# Altium footprint library Vyrodov.PcbLib: 62 footprints (part 3 of 5)
Each footprint in its own frame and in the unit in brackets; x right, y up, seen from the top. Pads: shape width x height; smd on the part's side, far side on the other; paste and mask are expansions set on the pad; w line width, h text height; cw(c..) or ccw(c..) is an arc to the next point about the centre after c.
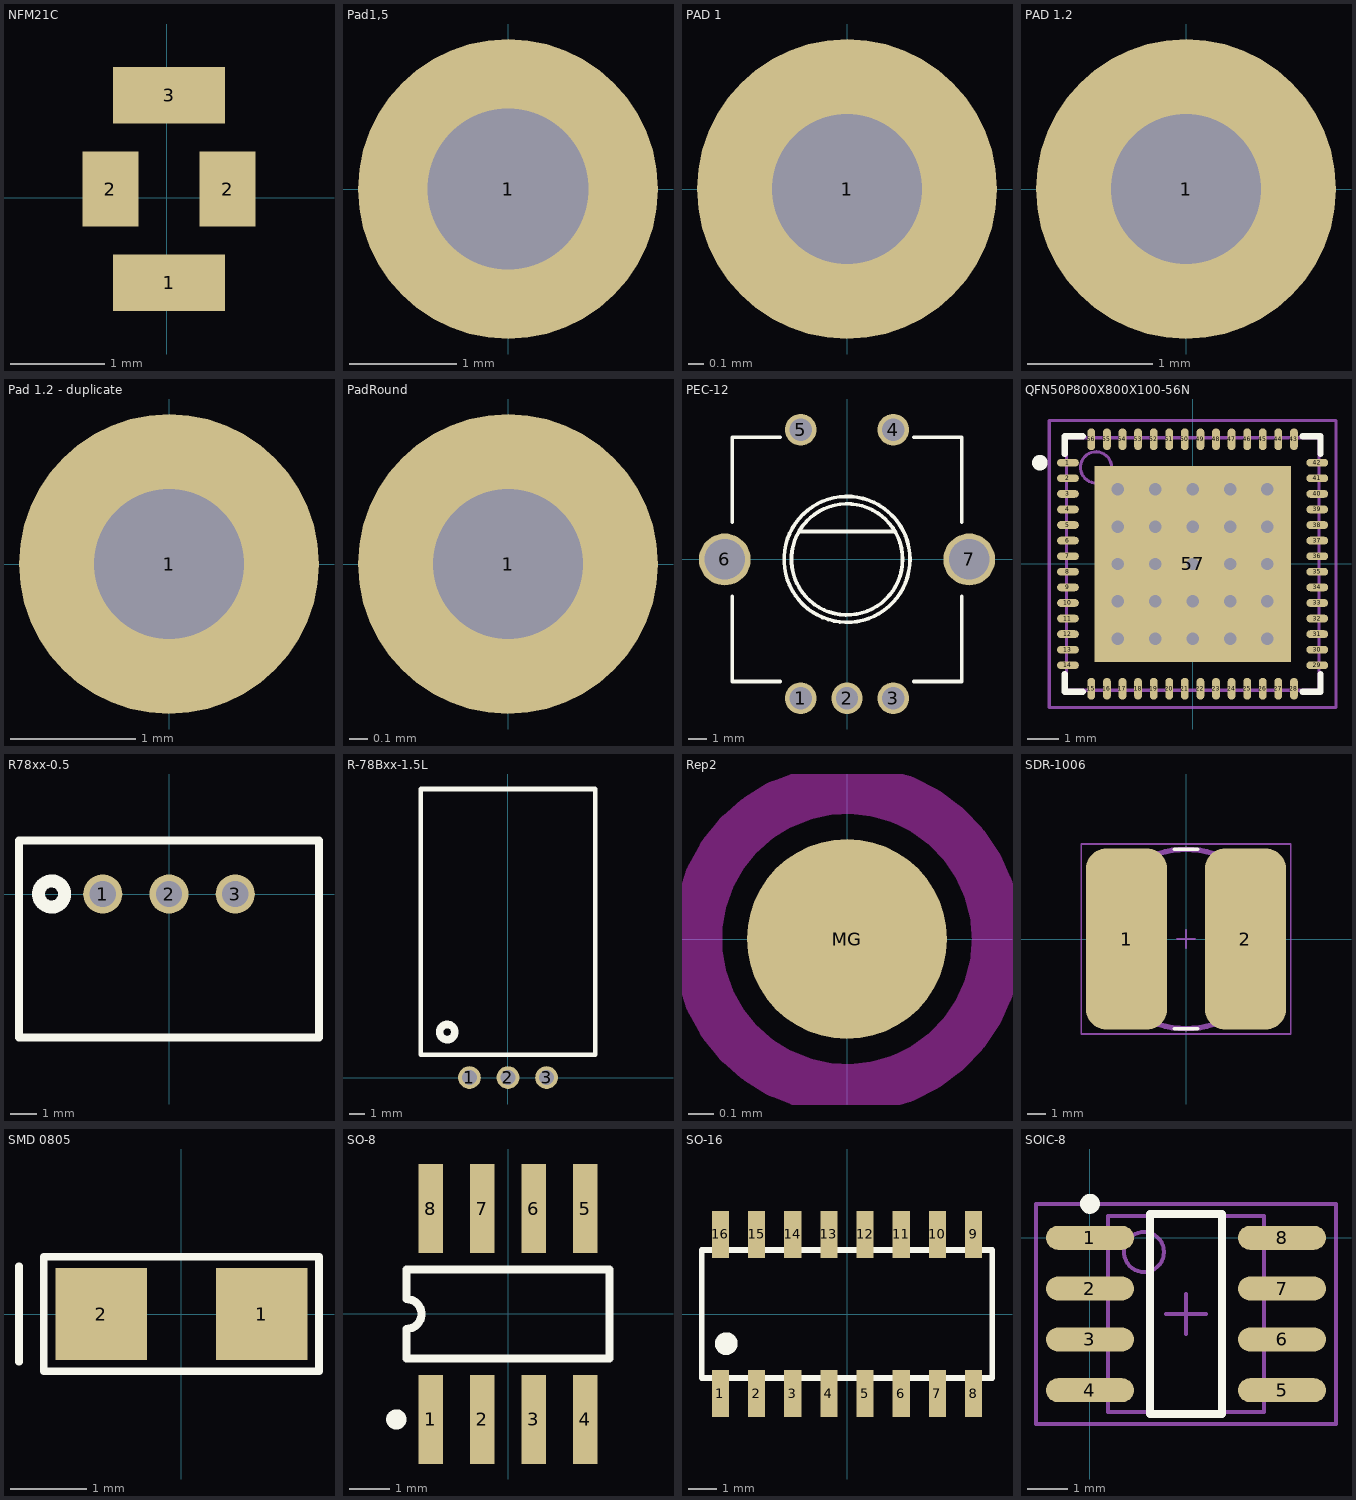
[diagram p2: the footprints below, top view; thin cyan lines are the x and y axes]

## NFM21C [mm]
height 0.85
pads (4):
  rect 1.2x0.6 smd: 1(0.023,-0.909) 3(0.023,1.091)
  rect 0.6x0.8 smd: 2(-0.602,0.091) 2(0.648,0.091)
3D body: height 0.84, standoff 0, extent -0.577,-0.884 0.623,1.066
3D body: height 0.85, standoff 0, extent 0.448,-0.209 0.648,0.391
3D body: height 0.85, standoff 0, extent -0.602,-0.209 -0.402,0.391
3D body: height 0.85, standoff 0, extent -0.602,0.791 0.648,1.091
3D body: height 0.85, standoff 0, extent -0.602,-0.909 0.648,-0.609

## Pad1,5 [mm] "Pad Round"
pads (1):
  round 2.8 hole 1.5: 1(0,0)

## PAD 1 [mm]
pads (1):
  round 2 hole 1: 1(0,0)

## PAD 1.2 [mm]
pads (1):
  round 2.4 hole 1.2: 1(0,0)

## Pad 1.2 - duplicate [mm]
pads (1):
  round 2.4 hole 1.2: 1(0,0)

## PadRound [mm] "Pad Round"
pads (1):
  round 1.6 hole 0.8: 1(0,0)

## PEC-12 [mm]
pads (7):
  round 1.7 hole 1.2: 1(-2.5,-7.5) 2(0,-7.5) 3(2.5,-7.5) 4(2.5,7) 5(-2.5,7)
  round 2.8 hole 2.2: 6(-6.6,0) 7(6.6,0)
Top Overlay:
  circle w0.2: c0,0 r3.4
  circle w0.2: c0,0 r3
  lines w0.2: -6.2,-2 -6.2,-6.6 -3.6,-6.6 ; -6.2,2 -6.2,6.6 -3.6,6.6 ; -2.5,1.5 2.5,1.5 ; 3.6,-6.6 6.2,-6.6 6.2,-2 ; 3.6,6.6 6.2,6.6 6.2,2
3D body "User Library-Encoder Alpha RE111F-41B3N-15F-20P.step": height 3.08, standoff -21.4, extent -6.771,-8.201 6.883,6.629

## QFN50P800X800X100-56N [mm] "QFN, 56-Leads, Body 8,1x8,1mm (max), Pitch 0,50mm, IPC Medium Density"
height 1
pads (57):
  oval 0.7x0.25 smd: 1(-4,3.25) 2(-4,2.75) 3(-4,2.25) 4(-4,1.75) 5(-4,1.25) 6(-4,0.75) 7(-4,0.25) 8(-4,-0.25) 9(-4,-0.75) 10(-4,-1.25) 11(-4,-1.75) 12(-4,-2.25) 13(-4,-2.75) 14(-4,-3.25) 29(4,-3.25) 30(4,-2.75) 31(4,-2.25) 32(4,-1.75) 33(4,-1.25) 34(4,-0.75) 35(4,-0.25) 36(4,0.25) 37(4,0.75) 38(4,1.25) 39(4,1.75) 40(4,2.25) 41(4,2.75) 42(4,3.25)
  oval 0.25x0.7 smd: 15(-3.25,-4) 16(-2.75,-4) 17(-2.25,-4) 18(-1.75,-4) 19(-1.25,-4) 20(-0.75,-4) 21(-0.25,-4) 22(0.25,-4) 23(0.75,-4) 24(1.25,-4) 25(1.75,-4) 26(2.25,-4) 27(2.75,-4) 28(3.25,-4) 43(3.25,4) 44(2.75,4) 45(2.25,4) 46(1.75,4) 47(1.25,4) 48(0.75,4) 49(0.25,4) 50(-0.25,4) 51(-0.75,4) 52(-1.25,4) 53(-1.75,4) 54(-2.25,4) 55(-2.75,4) 56(-3.25,4)
  rect 6.3x6.3 smd: 57(0,0)
via 2.4,-2.4 diameter 0.66 hole 0.4
via 1.2,-2.4 diameter 0.66 hole 0.4
via 0,-2.4 diameter 0.66 hole 0.4
via -1.2,-2.4 diameter 0.66 hole 0.4
via -2.4,-2.4 diameter 0.66 hole 0.4
via 2.4,-1.2 diameter 0.66 hole 0.4
via 1.2,-1.2 diameter 0.66 hole 0.4
via 0,-1.2 diameter 0.66 hole 0.4
via -1.2,-1.2 diameter 0.66 hole 0.4
via -2.4,-1.2 diameter 0.66 hole 0.4
via 2.4,0 diameter 0.66 hole 0.4
via 1.2,0 diameter 0.66 hole 0.4
via 0,0 diameter 0.66 hole 0.4
via -1.2,0 diameter 0.66 hole 0.4
via -2.4,0 diameter 0.66 hole 0.4
via 2.4,1.2 diameter 0.66 hole 0.4
via 1.2,1.2 diameter 0.66 hole 0.4
via 0,1.2 diameter 0.66 hole 0.4
via -1.2,1.2 diameter 0.66 hole 0.4
via -2.4,1.2 diameter 0.66 hole 0.4
via 2.4,2.4 diameter 0.66 hole 0.4
via 1.2,2.4 diameter 0.66 hole 0.4
via 0,2.4 diameter 0.66 hole 0.4
via -1.2,2.4 diameter 0.66 hole 0.4
via -2.4,2.4 diameter 0.66 hole 0.4
Top Overlay:
  circle w0.25: c-4.9,3.25 r0.125
  lines w0.2: -4.1,-3.525 -4.1,-4.1 -3.525,-4.1 ; -4.1,3.525 -4.1,4.1 -3.525,4.1 ; 3.525,-4.1 4.1,-4.1 4.1,-3.525 ; 3.525,4.1 4.1,4.1 4.1,3.525
Mechanical 13:
  circle w0.1: c-3.1,3.1 r0.5
  lines w0.1: -4.05,-4.05 4.05,-4.05 4.05,4.05 -4.05,4.05 -4.05,-4.05
Mechanical 15:
  lines w0.1: -0.5,0 0.5,0 ; 0,-0.5 0,0.5 ; -4.6,-4.6 4.6,-4.6 4.6,4.6 -4.6,4.6 -4.6,-4.6
3D body: height 1, standoff 0, extent -3.599,2.601 -2.601,3.599
3D body: height 1, standoff 0.02, extent -4.049,-4.049 4.049,4.049

## R78xx-0.5 [mm]
height 10.2
pads (3):
  round 1.5 hole 1: 1(-2.54,0) 2(0,0) 3(2.54,0)
Top Overlay:
  circle w0.5: c-4.5,0 r0.5
  lines w0.3: -5.75,-5.5 -5.75,2.05 5.75,2.05 5.75,-5.5 -5.75,-5.5
3D body: height 10.2, standoff 0, extent -5.75,-5.5 5.75,2

## R-78Bxx-1.5L [mm]
height 8.5
pads (3):
  round 1.5 hole 1: 1(-2.54,0) 2(0,0) 3(2.54,0)
Top Overlay:
  circle w0.5: c-4,3 r0.5
  lines w0.3: -5.75,1.5 5.75,1.5 5.75,19 -5.75,19 -5.75,1.5
3D body: height 8.5, standoff 0, extent -5.75,1.5 5.75,19

## Rep2 [mm]
height 13.4
pads (1):
  round 0.8 smd mask+0.3: MG(0,0)
Top Layer keep-out:
  circle w0.2: c0,0 r0.6

## SDR-1006 [mm] "SMD Power Inductors BOURNS"
height 5.8
pads (2):
  rrect50% 4.45x9.9 smd: 1(-3.25,0) 2(3.25,0)
Top Overlay:
  lines w0.2: -0.625,-4.9 0.625,-4.9 ; -0.625,4.9 0.625,4.9
Mechanical 13:
  lines w0.3: -4.733,-1.268 ccw(c-6.001,0) -4.733,1.268 cw(c0,0) 4.733,1.268 ccw(c6.001,0) 4.733,-1.268 cw(c0,0) -4.733,-1.268
Mechanical 15:
  lines w0.1: -0.5,0 0.5,0 ; 0,-0.5 0,0.5 ; -5.725,-5.2 5.725,-5.2 5.725,5.2 -5.725,5.2 -5.725,-5.2
3D body: height 5.8, standoff 0, extent -4.733,-4.9 4.733,4.9

## SMD 0805 [mm]
height 1
pads (2):
  rect 1.2x1.2 smd: 1(1.05,0) 2(-1.05,0)
Top Overlay:
  lines w0.1: -2.125,-0.625 -2.125,0.625 ; -1.8,-0.75 -1.8,0.75 -1.75,0.75 1.8,0.75 1.8,-0.75 -1.8,-0.75
3D body: height 0.5, standoff 0, extent -1.375,-0.7 1.375,0.7
3D body: height 1, standoff 0.5, extent -1,-0.575 1,0.575

## SO-8 [mm] "Small Outline; 8 Leads; Body Width 3.9 mm; Pitch 1.27 mm"
height 1.75
pads (8):
  rect 0.6x2.2 smd: 1(-1.905,-2.6) 2(-0.635,-2.6) 3(0.635,-2.6) 4(1.905,-2.6) 5(1.905,2.6) 6(0.635,2.6) 7(-0.635,2.6) 8(-1.905,2.6)
Top Overlay:
  circle w0.25: c-2.755,-2.6 r0.125
  lines w0.2: -2.5,-1.1 -2.5,-0.367 ccw(c-2.5,0) -2.5,0.367 -2.5,1.1 2.5,1.1 2.5,-1.1 -2.5,-1.1
3D body "CircuitWorks-SO-8.step": height 1.4, standoff -0.05, extent -2.452,-2.889 2.45,2.889

## SO-16 [mm] "Small Outline; 16 Leads; Body Width 5.6 mm; Pitch 1.27 mm"
height 2.2
pads (16):
  rect 0.6x1.65 smd: 1(-4.445,-2.8) 2(-3.175,-2.8) 3(-1.905,-2.8) 4(-0.635,-2.8) 5(0.635,-2.8) 6(1.905,-2.8) 7(3.175,-2.8) 8(4.445,-2.8) 9(4.445,2.8) 10(3.175,2.8) 11(1.905,2.8) 12(0.635,2.8) 13(-0.635,2.8) 14(-1.905,2.8) 15(-3.175,2.8) 16(-4.445,2.8)
Top Overlay:
  circle w0.4: c-4.242,-1.041 r0.2
  lines w0.2: -5.105,-2.25 5.105,-2.25 5.105,2.25 -5.105,2.25 -5.105,-0.09 -5.105,-2.25
3D body "so-16.step": height 1.7, standoff 0, extent -5.1,-2.974 5.1,3.026

## SOIC-8 [mm]
pads (8):
  oval 2.2x0.6 smd: 1(0,0) 2(0,-1.27) 3(0,-2.54) 4(0,-3.81) 5(4.8,-3.81) 6(4.8,-2.54) 7(4.8,-1.27) 8(4.8,0)
Top Overlay:
  circle w0.25: c0,0.85 r0.125
  lines w0.2: 1.5,-4.405 3.3,-4.405 3.3,0.595 1.5,0.595 1.5,-4.405
Mechanical 13:
  circle w0.1: c1.35,-0.355 r0.5
  lines w0.1: 0.45,-4.355 4.35,-4.355 4.35,0.545 0.45,0.545 0.45,-4.355
Mechanical 15:
  lines w0.1: 1.9,-1.905 2.9,-1.905 ; 2.4,-2.405 2.4,-1.405 ; -1.35,-4.655 6.15,-4.655 6.15,0.845 -1.35,0.845 -1.35,-4.655
3D body: height 1.75, standoff 0, extent 0.45,-4.355 4.35,0.545